# EAGLE library part MAX2659ELT+T (library MAX2659)
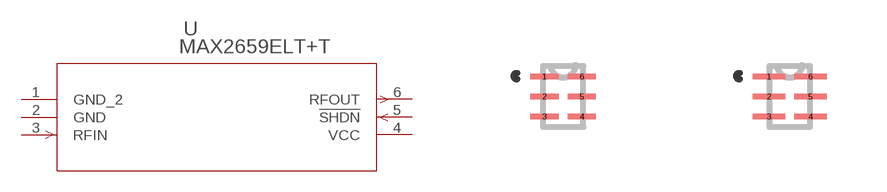
[diagram p0: symbol with the pads of 21-0147E; footprints 21-0147E, 21-0147E-M]

Designator prefix U

## MAX2659ELT+T (MANUFACTURER_PART_NUMBER: MAX2659ELT+T; VENDOR: Maxim Integrated Products)  [21-0147E]
1  GND_2  pwr
2  GND  pwr
3  RFIN  in
4  VCC  pwr
5  !SHDN  in
6  RFOUT  out

## MAX2659ELT+T21-0147E-M (MANUFACTURER_PART_NUMBER: MAX2659ELT+T; VENDOR: Maxim Integrated Products)  [21-0147E-M]
Pads as for 21-0147E

## MAX2659ELT+T21-0147E-L (MANUFACTURER_PART_NUMBER: MAX2659ELT+T; VENDOR: Maxim Integrated Products)  [21-0147E-L]
Pads as for 21-0147E

## Footprint 21-0147E (pad centres in mm)
smd 0.706 x 0.149: 1 -0.468,0.5; 2 -0.468,0; 3 -0.468,-0.5; 4 0.468,-0.5; 5 0.468,0; 6 0.468,0.5

## Footprint 21-0147E-M (pad centres in mm)
smd 0.806 x 0.149: 1 -0.517,0.5; 2 -0.517,0; 3 -0.517,-0.5; 4 0.517,-0.5; 5 0.517,0; 6 0.517,0.5

## Footprint 21-0147E-L (pad centres in mm)
smd 0.606 x 0.149: 1 -0.417,0.5; 2 -0.417,0; 3 -0.417,-0.5; 4 0.417,-0.5; 5 0.417,0; 6 0.417,0.5